# Altium schematic symbol library SCH - POWER - LINEAR VREG - TI TPS7A88RTJ.SchLib: 1 symbol
Pins are listed as number, name and electrical type; pins without a type are passive.

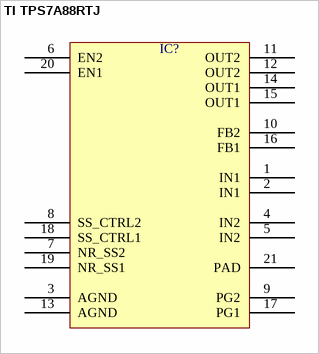
[diagram p0: symbol TI TPS7A88RTJ]

## TI TPS7A88RTJ
designator IC?  (value not drawn)
pins: 1 IN1, 2 IN1, 3 AGND, 4 IN2, 5 IN2, 6 EN2, 7 NR_SS2, 8 SS_CTRL2, 9 PG2, 10 FB2, 11 OUT2, 12 OUT2, 13 AGND, 14 OUT1, 15 OUT1, 16 FB1, 17 PG1, 18 SS_CTRL1, 19 NR_SS1, 20 EN1, 21 PAD